# EAGLE library part 74LVC2G53 (library Capstone Library)
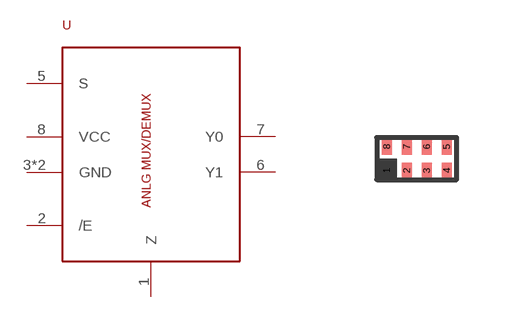
[diagram p5: symbol with the pads of SOT833-1; footprint SOT833-1]

Designator prefix -

## 74LVC2G53  [SOT833-1]
1  Z
2  /E
3  GND
4  GND
5  S
6  Y1
7  Y0
8  VCC

## Footprint SOT833-1 (pad centres in mm)
smd 0.25 x 0.4: 1 -0.75,-0.3; 2 -0.25,-0.3; 3 0.25,-0.3; 4 0.75,-0.3; 5 0.75,0.3; 6 0.25,0.3; 7 -0.25,0.3; 8 -0.75,0.3